# EAGLE library part FOD2741 (library wheat)
FOD2741 optically coupled error amp Fairchild Semi
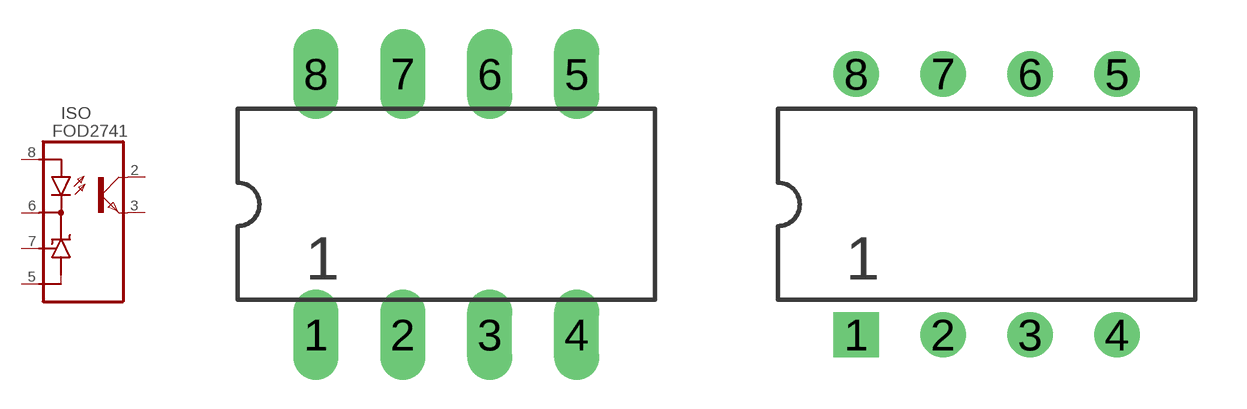
[diagram p44: symbol with the pads of DIP8; footprints DIP8, DIP8_RP]

Designator prefix ISO

## FOD2741  [DIP8]
2  COL  pas
3  EMI  pas
5  GND  pas
6  COMP  pas
7  FB  pas
8  A  pas

## FOD2741B  [DIP8_RP]
Pads as for DIP8

## FOD2741_SO  [SO8_OPTO]
Pads as for DIP8

## Footprint DIP8 (pad centres in mm)
DIP8 .300 centers
drill 0.813 long: 1 0,0; 2 2.54,0; 3 5.08,0; 4 7.62,0; 5 7.62,7.62; 6 5.08,7.62; 7 2.54,7.62; 8 0,7.62

## Footprint DIP8_RP (pad centres in mm)
DIP8 300 centers, small round pads
drill 0.813 square: 1 0,0
drill 0.813: 2 2.54,0; 3 5.08,0; 4 7.62,0; 5 7.62,7.62; 6 5.08,7.62; 7 2.54,7.62; 8 0,7.62

## Footprint SO8_OPTO (pad centres in mm)
smd 0.61 x 1.53: 1 -1.905,-2.74; 2 -0.635,-2.74; 3 0.635,-2.74; 4 1.905,-2.74; 5 1.905,2.74; 6 0.635,2.74; 7 -0.635,2.74; 8 -1.905,2.74